# EAGLE library part MOLEX_0470230001 (library simcard)
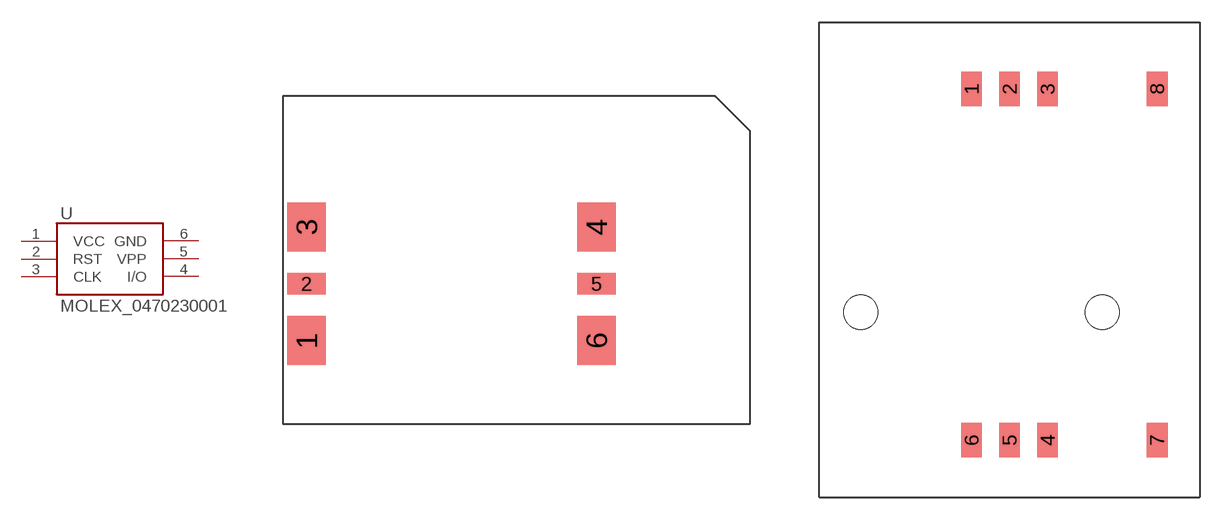
[diagram p0: symbol with the pads of MOLEX_0470230001; footprints MOLEX_0470230001, MOLEX_91228-3001]

Designator prefix -

## MOLEX_04702300011  [MOLEX_0470230001]
1  VCC
2  RST
3  CLK
4  I/O
5  VPP
6  GND

## MOLEX_04702300012  [MOLEX_91228-3001]
Pads as for MOLEX_0470230001

## Footprint MOLEX_0470230001 (pad centres in mm)
smd 2.2 x 2.8: 1 1.36,4.75; 3 1.36,11.23; 4 17.9,11.23; 6 17.9,4.75
smd 2.2 x 1.2: 2 1.36,7.99; 5 17.9,7.99

## Footprint MOLEX_91228-3001 (pad centres in mm)
smd 1.4 x 2.3: 1 0,23.5; 2 2.54,23.5; 3 5.08,23.5; 4 5.08,0; 5 2.54,0; 6 0,0; 7 12.4,0; 8 12.4,23.5
hole 2.3 at -7.4,8.55
hole 2.3 at 8.74,8.55